# Altium footprint library Passive_Footprints.PcbLib: 25 footprints (part 1 of 2)
Each footprint in its own frame and in the unit in brackets; x right, y up, seen from the top. Pads: shape width x height; smd on the part's side, far side on the other; paste and mask are expansions set on the pad; w line width, h text height; cw(c..) or ccw(c..) is an arc to the next point about the centre after c.
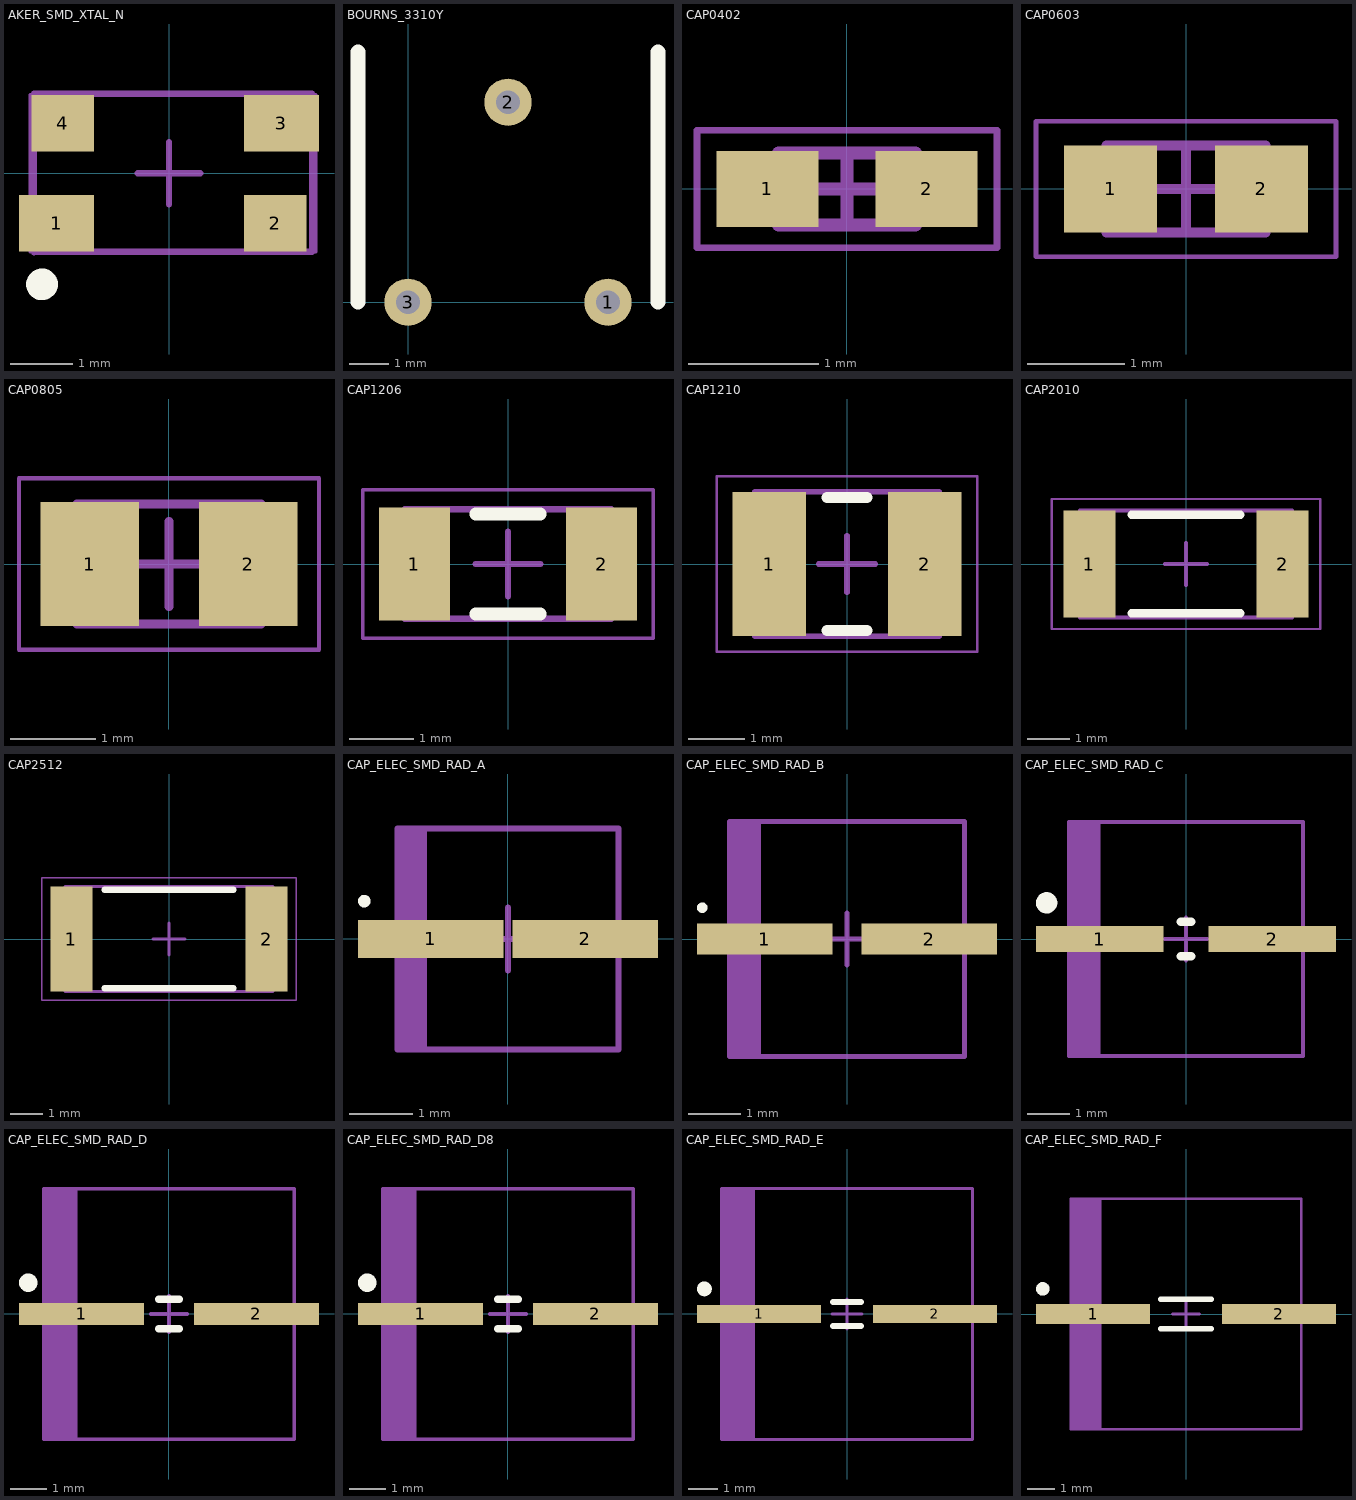
[diagram p0: the footprints below, top view; thin cyan lines are the x and y axes]

## AKER_SMD_XTAL_N [mm] "SMD Xtal, 2-Leads, Body 3.40x2.70mm, IPC Medium Density"
height 0.75
pads (4):
  rect 1.2x0.9 smd: 1(-1.8,-0.8) 3(1.8,0.8)
  rect 1x0.9 smd: 2(1.7,-0.8) 4(-1.7,0.8)
Top Overlay:
  circle w0.254: c-2.032,-1.778 r0.127
Mechanical 13:
  lines w0.1: -2.159,-1.27 -2.159,1.27 2.286,1.27 2.286,-1.257 -2.159,-1.257
Mechanical 15:
  lines w0.05: -2.22,-1.257 -2.22,1.257 2.347,1.257 2.347,-1.257 -2.22,-1.257
  lines w0.1: -0.5,0 0.5,0 ; 0,-0.5 0,0.5
3D body: height 0.75, standoff 0.6, extent -2.159,-1.143 2.159,1.143
3D body: height 0.6, standoff 0, extent -2.123,-1.143 2.159,1.13

## BOURNS_3310Y [mm]
pads (3):
  round 1.2 hole 0.6: 1(5.08,0) 2(2.54,5.08) 3(0,0)
Top Overlay:
  lines w0.381: -1.27,0 -1.27,6.35 ; 6.35,0 6.35,6.35

## CAP0402 [mm] "Chip Capacitor, 2-Leads, Body 1.00x0.50mm, IPC Medium Density"
height 0.56
pads (2):
  rect 0.78x0.58 smd: 1(-0.61,0) 2(0.61,0)
Mechanical 13:
  lines w0.1: -0.525,-0.275 -0.525,0.275 0.525,0.275 0.525,-0.275 -0.525,-0.275
Mechanical 15:
  lines w0.05: -1.15,-0.45 -1.15,0.45 1.15,0.45 1.15,-0.45 -1.15,-0.45
  lines w0.1: -0.275,0 0.275,0 ; 0,-0.275 0,0.275
3D body: height 0.56, standoff 0, extent -0.325,-0.275 0.325,0.275
3D body: height 0.56, standoff 0, extent -0.525,-0.275 -0.325,0.275
3D body: height 0.56, standoff 0, extent 0.325,-0.275 0.525,0.275

## CAP0603 [mm] "Chip Capacitor, 2-Leads, Body 1.55x0.80mm, IPC Medium Density"
height 0.9
pads (2):
  rect 0.96x0.9 smd: 1(-0.78,0) 2(0.78,0)
Mechanical 13:
  lines w0.1: -0.825,-0.45 0.825,-0.45 0.825,0.45 -0.825,0.45 -0.825,-0.45
Mechanical 15:
  lines w0.05: -1.55,-0.7 1.55,-0.7 1.55,0.7 -1.55,0.7 -1.55,-0.7
  lines w0.1: -0.45,0 0.45,0 ; 0,-0.45 0,0.45
3D body: height 0.9, standoff 0, extent 0.525,-0.45 0.825,0.45
3D body: height 0.9, standoff 0, extent -0.825,-0.45 -0.525,0.45
3D body: height 0.9, standoff 0, extent -0.525,-0.45 0.525,0.45

## CAP0805 [mm] "Chip Capacitor, 2-Leads, Body 2.00x1.25mm, IPC Medium Density"
height 1.4
pads (2):
  rect 1.15x1.45 smd: 1(-0.925,0) 2(0.925,0)
Mechanical 13:
  lines w0.1: -1.075,-0.7 1.075,-0.7 1.075,0.7 -1.075,0.7 -1.075,-0.7
Mechanical 15:
  lines w0.05: -1.75,-1 1.75,-1 1.75,1 -1.75,1 -1.75,-1
  lines w0.1: -0.5,0 0.5,0 ; 0,-0.5 0,0.5
3D body: height 1.4, standoff 0, extent 0.695,-0.7 1.075,0.7
3D body: height 1.4, standoff 0, extent -1.075,-0.7 -0.695,0.7
3D body: height 1.4, standoff 0, extent -0.695,-0.7 0.695,0.7

## CAP1206 [mm] "Chip Capacitor, 2-Leads, Body 3.05x1.55mm, IPC Medium Density"
height 1.78
pads (2):
  rect 1.1x1.75 smd: 1(-1.45,0) 2(1.45,0)
Top Overlay:
  lines w0.2: -0.5,-0.775 0.5,-0.775 ; -0.5,0.775 0.5,0.775
Mechanical 13:
  lines w0.1: -1.6,-0.85 1.6,-0.85 1.6,0.85 -1.6,0.85 -1.6,-0.85
Mechanical 15:
  lines w0.05: -2.25,-1.15 2.25,-1.15 2.25,1.15 -2.25,1.15 -2.25,-1.15
  lines w0.1: -0.5,0 0.5,0 ; 0,-0.5 0,0.5
3D body: height 1.78, standoff 0, extent 1.22,-0.85 1.6,0.85
3D body: height 1.78, standoff 0, extent -1.6,-0.85 -1.22,0.85
3D body: height 1.78, standoff 0, extent -1.22,-0.85 1.22,0.85

## CAP1210 [mm] "Chip Capacitor, 2-Leads, Body 3.10x2.40mm, IPC Medium Density"
height 2.54
pads (2):
  rect 1.3x2.55 smd: 1(-1.375,0) 2(1.375,0)
Top Overlay:
  lines w0.2: -0.35,-1.175 0.35,-1.175 ; -0.35,1.175 0.35,1.175
Mechanical 13:
  lines w0.1: -1.625,-1.275 1.625,-1.275 1.625,1.275 -1.625,1.275 -1.625,-1.275
Mechanical 15:
  lines w0.05: -2.3,-1.55 2.3,-1.55 2.3,1.55 -2.3,1.55 -2.3,-1.55
  lines w0.1: -0.5,0 0.5,0 ; 0,-0.5 0,0.5
3D body: height 2.54, standoff 0, extent 1.175,-1.275 1.625,1.275
3D body: height 2.54, standoff 0, extent -1.625,-1.275 -1.175,1.275
3D body: height 2.54, standoff 0, extent -1.175,-1.275 1.175,1.275

## CAP2010 [mm] "Chip Capacitor, 2-Leads, Body 4.90x2.40mm, IPC Medium Density"
height 4.5
pads (2):
  rect 1.25x2.55 smd: 1(-2.3,0) 2(2.3,0)
Top Overlay:
  lines w0.2: -1.3,-1.175 1.3,-1.175 ; -1.3,1.175 1.3,1.175
Mechanical 13:
  lines w0.1: -2.525,-1.275 2.525,-1.275 2.525,1.275 -2.525,1.275 -2.525,-1.275
Mechanical 15:
  lines w0.05: -3.2,-1.55 3.2,-1.55 3.2,1.55 -3.2,1.55 -3.2,-1.55
  lines w0.1: -0.5,0 0.5,0 ; 0,-0.5 0,0.5
3D body: height 4.5, standoff 0, extent 2.045,-1.275 2.525,1.275
3D body: height 4.5, standoff 0, extent -2.525,-1.275 -2.045,1.275
3D body: height 4.5, standoff 0, extent -2.045,-1.275 2.045,1.275

## CAP2512 [mm] "Chip Capacitor, 2-Leads, Body 6.30x3.10mm, IPC Medium Density"
height 6
pads (2):
  rect 1.3x3.25 smd: 1(-3.025,0) 2(3.025,0)
Top Overlay:
  lines w0.2: -2,-1.525 2,-1.525 ; -2,1.525 2,1.525
Mechanical 13:
  lines w0.1: -3.225,-1.625 3.225,-1.625 3.225,1.625 -3.225,1.625 -3.225,-1.625
Mechanical 15:
  lines w0.05: -3.95,-1.9 3.95,-1.9 3.95,1.9 -3.95,1.9 -3.95,-1.9
  lines w0.1: -0.5,0 0.5,0 ; 0,-0.5 0,0.5
3D body: height 6, standoff 0, extent 2.725,-1.625 3.225,1.625
3D body: height 6, standoff 0, extent -3.225,-1.625 -2.725,1.625
3D body: height 6, standoff 0, extent -2.725,-1.625 2.725,1.625

## CAP_ELEC_SMD_RAD_A [mm] "Molded Capacitor, 2-Leads, Body 3.60x0.65mm, IPC Medium Density"
height 1.8
pads (2):
  rect 2.3x0.6 smd: 1(-1.225,0) 2(1.225,0)
Top Overlay:
  circle w0.1: c-2.275,0.6 r0.05
Mechanical 13:
  rectangle: -1.75,-1.75 -1.279,1.75
  lines w0.1: -1.75,-1.75 1.75,-1.75 1.75,1.75 -1.75,1.75 -1.75,-1.75
Mechanical 15:
  lines w0.05: -1.75,-1.75 1.75,-1.75 1.75,1.75 -1.75,1.75 -1.75,-1.75
  lines w0.1: -0.5,0 0.5,0 ; 0,-0.5 0,0.5
3D body: height 1.8, standoff 0, extent -1.75,-1.75 1.75,1.75

## CAP_ELEC_SMD_RAD_B [mm] "Molded Capacitor, 2-Leads, Body 4.60x0.65mm, IPC Medium Density"
height 1.8
pads (2):
  rect 2.6x0.6 smd: 1(-1.575,0) 2(1.575,0)
Top Overlay:
  circle w0.1: c-2.775,0.6 r0.05
Mechanical 13:
  rectangle: -2.25,-2.25 -1.645,2.25
  lines w0.1: -2.25,-2.25 -2.25,2.25 2.25,2.25 2.25,-2.25 -2.25,-2.25
Mechanical 15:
  lines w0.05: -2.25,-2.25 -2.25,2.25 2.25,2.25 2.25,-2.25 -2.25,-2.25
  lines w0.1: -0.5,0 0.5,0 ; 0,-0.5 0,0.5
3D body: height 1.8, standoff 0, extent -2.25,-2.25 2.25,2.25

## CAP_ELEC_SMD_RAD_C [mm] "Molded Capacitor, 2-Leads, Body 5.90x0.65mm, IPC Medium Density"
height 1.8
pads (2):
  rect 3x0.6 smd: 1(-2.025,0) 2(2.025,0)
Top Overlay:
  circle w0.25: c-3.275,0.85 r0.125
  lines w0.2: -0.125,-0.4 0.125,-0.4 ; -0.125,0.4 0.125,0.4
Mechanical 13:
  rectangle: -2.75,-2.75 -2.01,2.75
  lines w0.1: -2.75,-2.75 -2.75,2.75 2.75,2.75 2.75,-2.75 -2.75,-2.75
Mechanical 15:
  lines w0.05: -2.75,-2.75 -2.75,2.75 2.75,2.75 2.75,-2.75 -2.75,-2.75
  lines w0.1: -0.5,0 0.5,0 ; 0,-0.5 0,0.5
3D body: height 1.8, standoff 0, extent -2.75,-2.75 2.75,2.75

## CAP_ELEC_SMD_RAD_D [mm] "Molded Capacitor, 2-Leads, Body 7.00x0.65mm, IPC Medium Density"
height 1.8
pads (2):
  rect 3.4x0.6 smd: 1(-2.375,0) 2(2.375,0)
Top Overlay:
  circle w0.25: c-3.825,0.85 r0.125
  lines w0.2: -0.275,-0.4 0.275,-0.4 ; -0.275,0.4 0.275,0.4
Mechanical 13:
  rectangle: -3.4,-3.4 -2.485,3.4
  lines w0.1: -3.4,-3.4 3.4,-3.4 3.4,3.4 -3.4,3.4 -3.4,-3.4
Mechanical 15:
  lines w0.05: -3.4,-3.4 3.4,-3.4 3.4,3.4 -3.4,3.4 -3.4,-3.4
  lines w0.1: -0.5,0 0.5,0 ; 0,-0.5 0,0.5
3D body: height 1.8, standoff 0, extent -3.4,-3.4 3.4,3.4

## CAP_ELEC_SMD_RAD_D8 [mm] "Molded Capacitor, 2-Leads, Body 7.00x0.65mm, IPC Medium Density"
height 1.8
pads (2):
  rect 3.4x0.6 smd: 1(-2.375,0) 2(2.375,0)
Top Overlay:
  circle w0.25: c-3.825,0.85 r0.125
  lines w0.2: -0.275,-0.4 0.275,-0.4 ; -0.275,0.4 0.275,0.4
Mechanical 13:
  rectangle: -3.4,-3.4 -2.485,3.4
  lines w0.1: -3.4,-3.4 -3.4,3.4 3.4,3.4 3.4,-3.4 -3.4,-3.4
Mechanical 15:
  lines w0.05: -3.4,-3.4 -3.4,3.4 3.4,3.4 3.4,-3.4 -3.4,-3.4
  lines w0.1: -0.5,0 0.5,0 ; 0,-0.5 0,0.5
3D body: height 1.8, standoff 0, extent -3.4,-3.4 3.4,3.4

## CAP_ELEC_SMD_RAD_E [mm] "Molded Capacitor, 2-Leads, Body 9.00x0.65mm, IPC Medium Density"
height 1.8
pads (2):
  rect 4.2x0.6 smd: 1(-2.975,0) 2(2.975,0)
Top Overlay:
  circle w0.25: c-4.825,0.85 r0.125
  lines w0.2: -0.475,-0.4 0.475,-0.4 ; -0.475,0.4 0.475,0.4
Mechanical 13:
  rectangle: -4.25,-4.25 -3.107,4.25
  lines w0.1: -4.25,-4.25 -4.25,4.25 4.25,4.25 4.25,-4.25 -4.25,-4.25
Mechanical 15:
  lines w0.05: -4.25,-4.25 -4.25,4.25 4.25,4.25 4.25,-4.25 -4.25,-4.25
  lines w0.1: -0.5,0 0.5,0 ; 0,-0.5 0,0.5
3D body: height 1.8, standoff 0, extent -4.25,-4.25 4.25,4.25

## CAP_ELEC_SMD_RAD_F [mm] "Molded Capacitor, 2-Leads, Body 9.90x0.85mm, IPC Medium Density"
height 1.8
pads (2):
  rect 4.2x0.75 smd: 1(-3.425,0) 2(3.425,0)
Top Overlay:
  circle w0.25: c-5.275,0.925 r0.125
  lines w0.2: -0.925,-0.55 0.925,-0.55 ; -0.925,0.55 0.925,0.55
Mechanical 13:
  rectangle: -4.25,-4.25 -3.107,4.25
  lines w0.1: -4.25,-4.25 -4.25,4.25 4.25,4.25 4.25,-4.25 -4.25,-4.25
Mechanical 15:
  lines w0.05: -4.25,-4.25 -4.25,4.25 4.25,4.25 4.25,-4.25 -4.25,-4.25
  lines w0.1: -0.5,0 0.5,0 ; 0,-0.5 0,0.5
3D body: height 1.8, standoff 0, extent -4.25,-4.25 4.25,4.25